# EAGLE library part PIC18F1XK50_MICROCHIP_PIC18F1XK50 (library Board1)
18/20/28-Pin High-Performance, Enhanced Flash Microcontrollers with 10-bit A/D and nanoWatt Technology Source: ww1.microchip.com/downloads/en/DeviceDoc/39605c.pdf
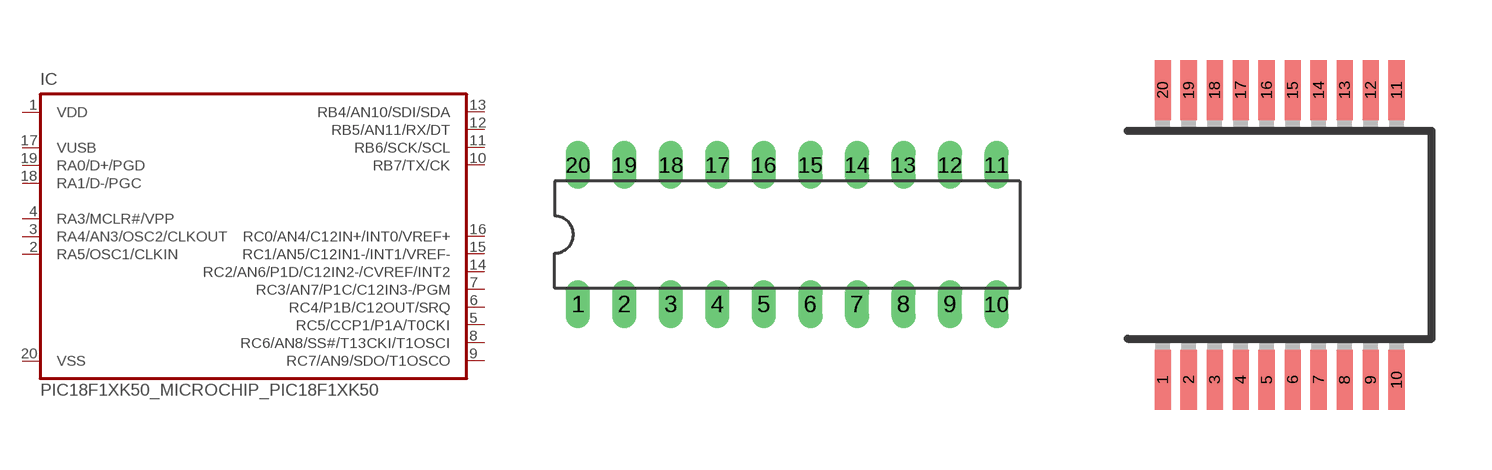
[diagram p1: symbol with the pads of PIC18F1XK50_DIL20; footprints PIC18F1XK50_DIL20, PIC18F1XK50_MICROCHIP_SSOP20]

Designator prefix IC

## PIC18F1XK50_MICROCHIP_PIC18F1XK50I/P  [PIC18F1XK50_DIL20]
1  VDD  pwr
2  RA5/OSC1/CLKIN
3  RA4/AN3/OSC2/CLKOUT
4  RA3/MCLR#/VPP
5  RC5/CCP1/P1A/T0CKI
6  RC4/P1B/C12OUT/SRQ
7  RC3/AN7/P1C/C12IN3-/PGM
8  RC6/AN8/SS#/T13CKI/T1OSCI
9  RC7/AN9/SDO/T1OSCO
10  RB7/TX/CK  in
11  RB6/SCK/SCL  in
12  RB5/AN11/RX/DT
13  RB4/AN10/SDI/SDA
14  RC2/AN6/P1D/C12IN2-/CVREF/INT2
15  RC1/AN5/C12IN1-/INT1/VREF-
16  RC0/AN4/C12IN+/INT0/VREF+
17  VUSB  pwr
18  RA1/D-/PGC
19  RA0/D+/PGD
20  VSS  pwr

## PIC18F1XK50_MICROCHIP_PIC18F1XK50SS, PIC18F1XK50_MICROCHIP_PIC18F1XK502SS, PIC18F1XK50_MICROCHIP_PIC18F1XK503SS  [PIC18F1XK50_MICROCHIP_SSOP20]
Pads as for PIC18F1XK50_DIL20

## Footprint PIC18F1XK50_DIL20 (pad centres in mm)
Dual In Line Package
drill 0.813 long: 1 -11.43,-3.81; 2 -8.89,-3.81; 3 -6.35,-3.81; 4 -3.81,-3.81; 5 -1.27,-3.81; 6 1.27,-3.81; 7 3.81,-3.81; 8 6.35,-3.81; 9 8.89,-3.81; 10 11.43,-3.81; 11 11.43,3.81; 12 8.89,3.81; 13 6.35,3.81; 14 3.81,3.81; 15 1.27,3.81; 16 -1.27,3.81; 17 -3.81,3.81; 18 -6.35,3.81; 19 -8.89,3.81; 20 -11.43,3.81

## Footprint PIC18F1XK50_MICROCHIP_SSOP20 (pad centres in mm)
Shrink Small Outline Package package type SS
smd 0.4 x 1.5: 1 -2.925,-3.625; 2 -2.275,-3.625; 3 -1.625,-3.625; 4 -0.975,-3.625; 5 -0.325,-3.625; 6 0.325,-3.625; 7 0.975,-3.625; 8 1.625,-3.625; 9 2.275,-3.625; 10 2.925,-3.625; 11 2.925,3.625; 12 2.275,3.625; 13 1.625,3.625; 14 0.975,3.625; 15 0.325,3.625; 16 -0.325,3.625; 17 -0.975,3.625; 18 -1.625,3.625; 19 -2.275,3.625; 20 -2.925,3.625